# EAGLE library part TDC7200 (library TDC7200)
TDC7200 chip made by Joe
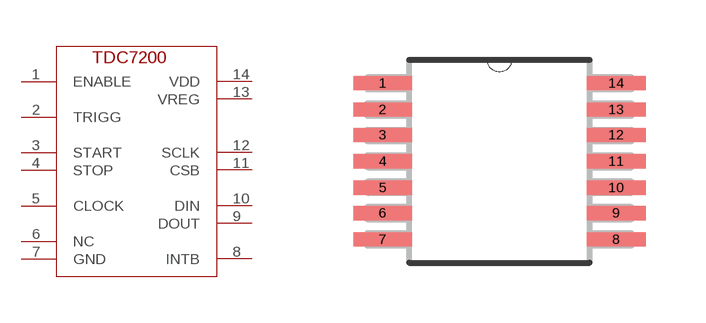
[diagram p0: symbol with the pads of SOP65P640X120-14N; footprint SOP65P640X120-14N]

Designator prefix -

## TDC72007201PW  [SOP65P640X120-14N]
1  ENABLE
2  TRIGG
3  START
4  STOP
5  CLOCK
6  NC
7  GND
8  INTB
9  DOUT
10  DIN
11  CSB
12  SCLK
13  VREG
14  VDD

## Footprint SOP65P640X120-14N (pad centres in mm)
smd 1.473 x 0.356: 1 -2.921,1.956; 2 -2.921,1.295; 3 -2.921,0.66; 4 -2.921,0; 5 -2.921,-0.66; 6 -2.921,-1.295; 7 -2.921,-1.956; 8 2.921,-1.956; 9 2.921,-1.295; 10 2.921,-0.66; 11 2.921,0; 12 2.921,0.66; 13 2.921,1.295; 14 2.921,1.956